# Altium footprint library MOLEX_0532610571.PcbLib: 1 footprints
Each footprint in its own frame and in the unit in brackets; x right, y up, seen from the top. Pads: shape width x height; smd on the part's side, far side on the other; paste and mask are expansions set on the pad; w line width, h text height; cw(c..) or ccw(c..) is an arc to the next point about the centre after c.
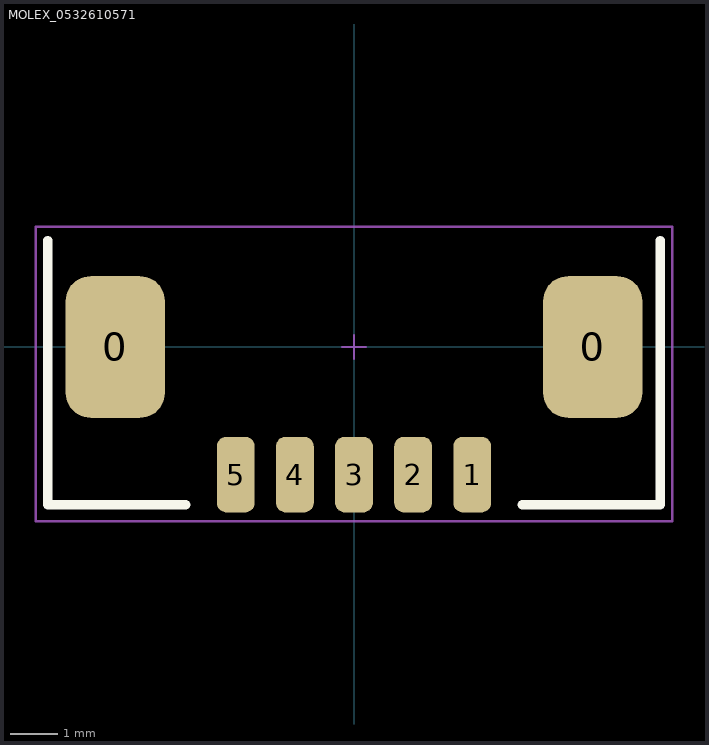
[diagram p0: the footprint, top view; thin cyan lines are the x and y axes]

## MOLEX_0532610571 [mm]
pads (7):
  rrect50% 2.1x3 smd: 0(-5.05,0) 0(5.05,0)
  rrect50% 0.8x1.6 smd: 1(2.5,-2.7) 2(1.25,-2.7) 3(0,-2.7) 4(-1.25,-2.7) 5(-2.5,-2.7)
Top Overlay:
  lines w0.2: -6.477,2.253 -6.477,-3.335 -3.556,-3.335 ; 3.556,-3.335 6.477,-3.335 6.477,2.253
Mechanical 15:
  lines w0.05: -0.254,0 0.254,0 ; 0,-0.254 0,0.254 ; -6.731,-3.683 6.731,-3.683 6.731,2.54 -6.731,2.54 -6.731,-3.683
3D body "532610571.stp": height 3.4, standoff 0, extent -5.7,-2.954 5.7,2.246